# Altium footprint library VQFN.PcbLib: 2 footprints
Each footprint in its own frame and in the unit in brackets; x right, y up, seen from the top. Pads: shape width x height; smd on the part's side, far side on the other; paste and mask are expansions set on the pad; w line width, h text height; cw(c..) or ccw(c..) is an arc to the next point about the centre after c.
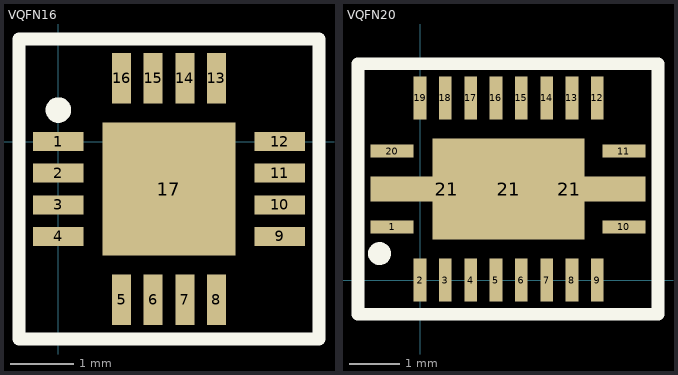
[diagram p0: the footprints below, top view; thin cyan lines are the x and y axes]

## VQFN16 [mm]
pads (17):
  rect 0.8x0.3 smd: 1(0,0) 2(0,-0.5) 3(0,-1) 4(0,-1.5) 9(3.5,-1.5) 10(3.5,-1) 11(3.5,-0.5) 12(3.5,0)
  rect 0.3x0.8 smd: 5(1,-2.5) 6(1.5,-2.5) 7(2,-2.5) 8(2.5,-2.5) 13(2.5,1) 14(2,1) 15(1.5,1) 16(1,1)
  rect 2.1x2.1 smd: 17(1.75,-0.75)
Top Overlay:
  circle w0.254: c0,0.5 r0.075
  lines w0.2: -0.625,-3.125 4.125,-3.125 4.125,1.625 -0.625,1.625 -0.625,-3.125
3D body "QFN16.step": height 0.9, standoff 0, extent 0.248,-2.25 3.25,0.752

## VQFN20 [mm]
pads (23):
  rect 0.85x0.25 smd: 1(-0.55,1.05) 10(4.025,1.05) 11(4.025,2.55) 20(-0.55,2.55)
  rect 0.25x0.85 smd: 2(0,0) 3(0.5,0) 4(1,0) 5(1.5,0) 6(2,0) 7(2.5,0) 8(3,0) 9(3.5,0) 12(3.5,3.6) 13(3,3.6) 14(2.5,3.6) 15(2,3.6) 16(1.5,3.6) 17(1,3.6) 18(0.5,3.6) 19(0,3.6)
  rect 3x0.5 smd: 21(0.525,1.8) 21(2.95,1.8)
  rect 3x2 smd: 21(1.75,1.8)
Top Overlay:
  circle w0.254: c-0.8,0.525 r0.1
  lines w0.25: -1.225,-0.675 -1.225,4.275 4.7,4.275 4.7,-0.675 -1.225,-0.675
3D body "VQFN20.step": height 0.89, standoff -0.01, extent -0.51,0.04 4.01,3.56